# Altium integrated library Game of Simon.IntLib: 12 symbols
Pins are listed as number, name and electrical type; pins without a type are passive.

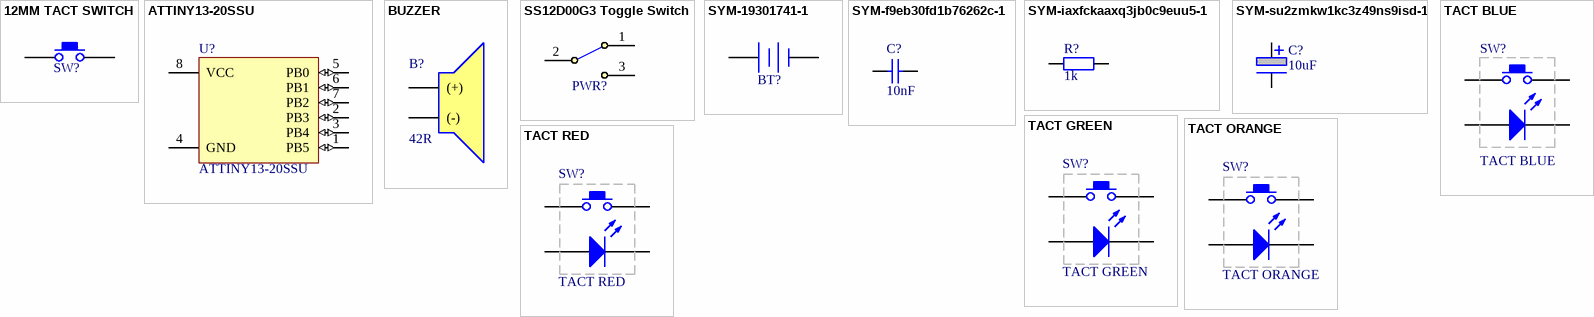
[diagram p0: symbols 12MM TACT SWITCH to TACT RED]

## 12MM TACT SWITCH
designator SW?  (value not drawn)
CustomComponentID: pjmxh7vitsno3jubi8oz
footprint 12mm TACT THROUGH HOLE
pins: 1, 2

## ATTINY13-20SSU
designator U?
ATtiny Series 20 MHz 1 KB Flash 64 B SRAM 8-Bit Microcontroller - SOIC-8; MF: Microchip; MP: ATTINY13-20SSU; Price: None; Package: SO-8 Microchip; Availability: Unavailable; SnapEDA_Link: https://www.snapeda.com/parts/ATTINY13-20SSU/Microchip/view-part/?ref=snap; Value: *
footprint DIP-8 (DIP, 14-Pin, Row Spacing 7.62 mm, Pitch 2.54 mm)
pins: 1 PB5 (io), 2 PB3 (io), 3 PB4 (io), 4 GND, 5 PB0 (io), 6 PB1 (io), 7 PB2 (io), 8 VCC (power)

## BUZZER
designator B?, comment 42R
footprint BUZZER
pins: 1 (+), 2 (-)

## SS12D00G3 Toggle Switch
designator PWR?, comment SS12D00G3  (value not drawn)
SS12D00G3 Toggle Switch
footprint SS12D00G3 (SS12D00G3 TOGGLE SWITCH)
pins: 1, 2, 3

## SYM-19301741-1
designator BT?, comment CR2032 Battery Holder  (value not drawn)
CR2032 Battery Holder, Through Hole, Horizontal Mount; CustomComponentID: dvcba8mzfnv4aqscf1uc
footprint CR2032 HOLDER
pins: 1 +, 2 -

## SYM-f9eb30fd1b76262c-1
designator C?, comment 10nF
Capacitor, Ceramic, 10000pF, 50VDC, 20-% Tol, 20+% Tol, X7R-TC Code, -15, 15%-TC; Manufacturer Part Number: C315C103M5R5TA; Octopart URL: http://octopart.com/c315c103m5r5ta-kemet-1886203; RoHS: Compliant; Mounting Style: Through Hole; OctopartID: f9eb30fd1b76262c
footprint CAP 0.100"
pins: 1, 2

## SYM-iaxfckaaxq3jb0c9euu5-1
designator R?, comment 1k
RESISITOR THROUGH HOLE 1/4W; CustomComponentID: iaxfckaaxq3jb0c9euu5
footprint RESISTOR 0.400"
pins: 1, 2

## SYM-su2zmkw1kc3z49ns9isd-1
designator C?, comment 10uF
5mm Through Hole Electrolytic 2mm Pitch, 5mm height; CustomComponentID: su2zmkw1kc3z49ns9isd
footprint CAP ELECTRO 5mm
pins: 1, 2

## TACT BLUE
designator SW?
ILLUMINATED 12MM TACT SWITCH (BLUE); CustomComponentID: pjmxh7vitsno3jubi8oz
footprint ILLUMINATED TACT BLUE
pins: 1, 2, A, K

## TACT GREEN
designator SW?
12mm TACT SWITCH GREEN
footprint ILLUMINATED TACT GREEN
pins: 1, 2, A, K

## TACT ORANGE
designator SW?
12mm TACT SWITCH ORANGE
footprint ILLUMINATED TACT ORANGE
pins: 1, 2, A, K

## TACT RED
designator SW?
12mm TACT SWITCH RED
footprint ILLUMINATED TACT RED
pins: 1, 2, A, K